# Altium footprint library KATADC_V1-3.PcbLib: 33 footprints (part 1 of 3)
Each footprint in its own frame and in the unit in brackets; x right, y up, seen from the top. Pads: shape width x height; smd on the part's side, far side on the other; paste and mask are expansions set on the pad; w line width, h text height; cw(c..) or ccw(c..) is an arc to the next point about the centre after c.
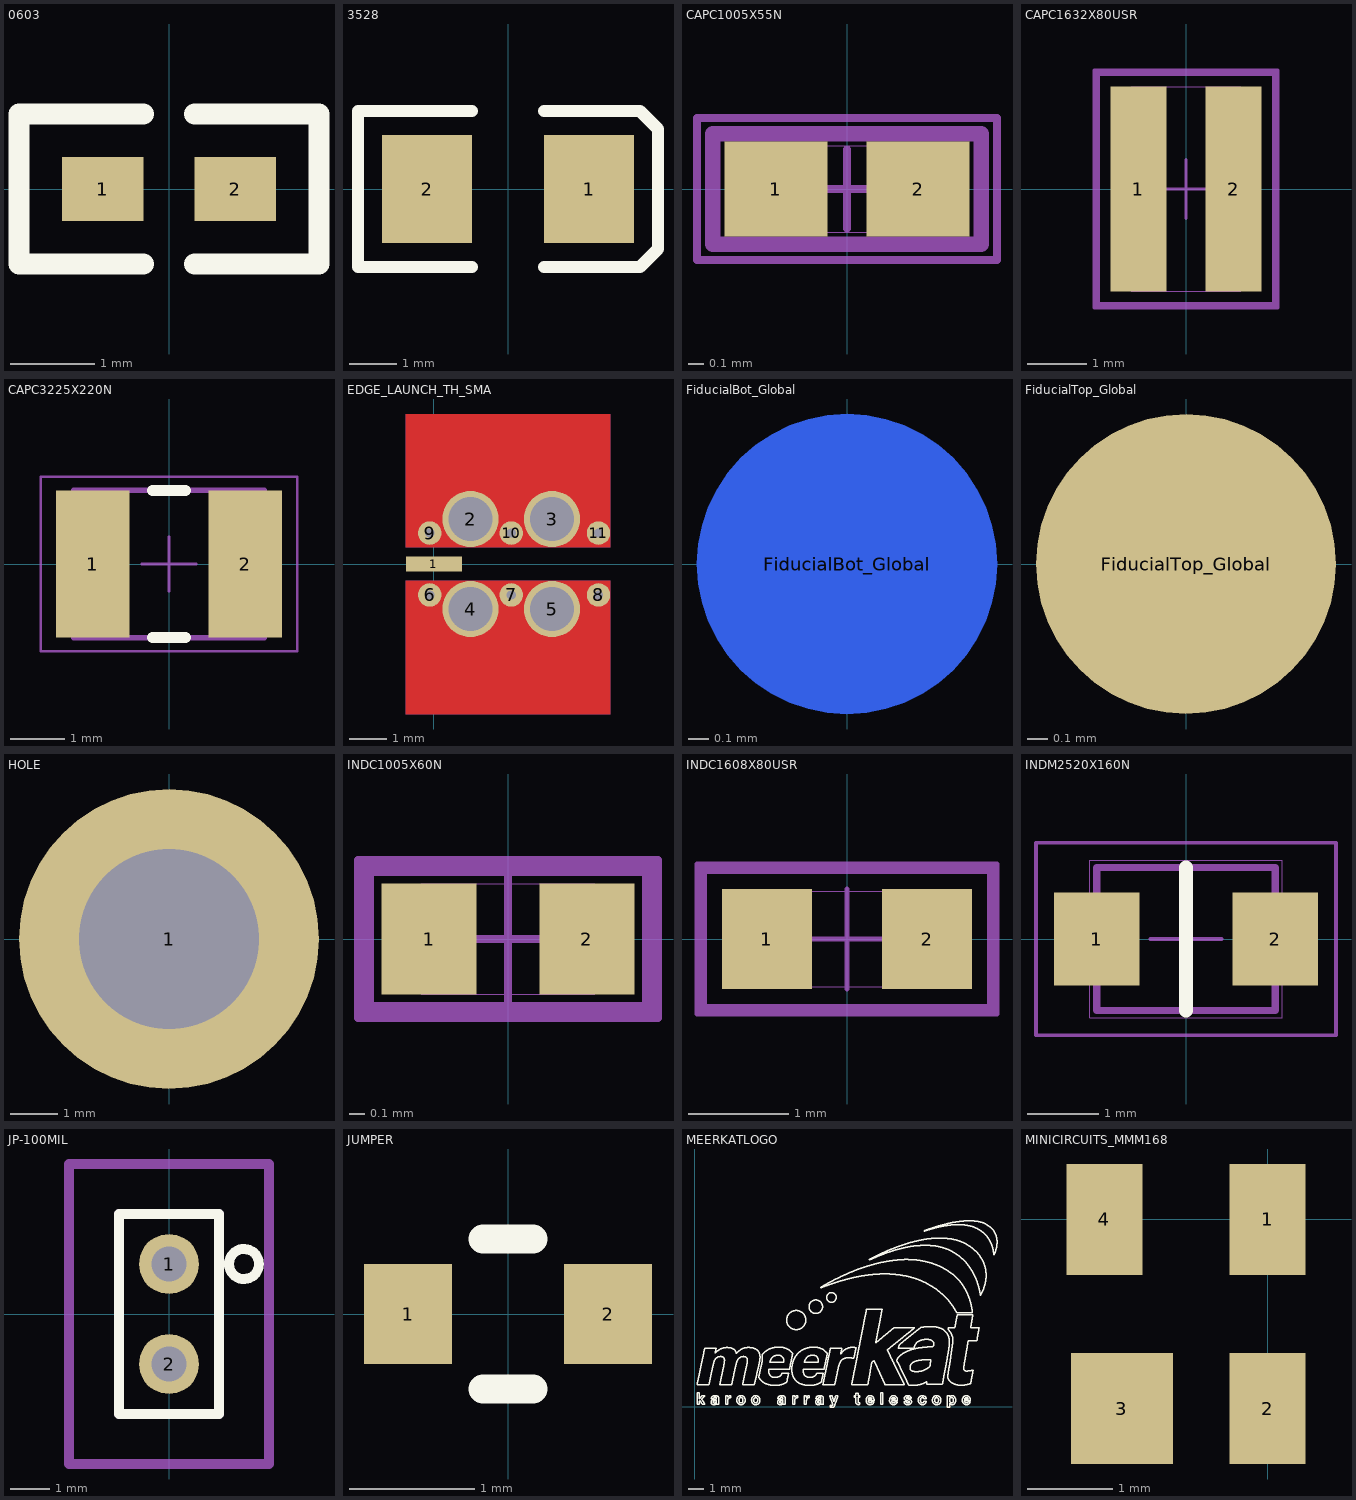
[diagram p0: the footprints below, top view; thin cyan lines are the x and y axes]

## 0603 [mil]
pads (2):
  rect 38x30 smd: 1(-31,0) 2(31,0)
Top Overlay:
  lines w10: -12,-35 -70,-35 -70,35 -12,35 ; 12,-35 70,-35 70,35 12,35

## 3528 [mil]
pads (2):
  rect 75x90 smd: 1(67.5,0) 2(-67.5,0)
Top Overlay:
  lines w10: -30,-65 -125,-65 -125,65 -30,65 ; 30,-65 110,-65 125,-50 125,50 110,65 30,65
Mechanical 13:
  text "C4" at -23.86,-15 h25

## CAPC1005X55N [mm]
pads (2):
  rect 0.65x0.6 smd mask+0.05: 1(-0.45,0) 2(0.45,0)
Mechanical 1:
  lines w0.1: -0.85,-0.35 -0.85,0.35 0.85,0.35 0.85,-0.35 -0.85,-0.35
Mechanical 13:
  text "C100" at -0.443,-0.152 h0.25
Mechanical 16:
  lines w0.001: -0.525,-0.275 -0.525,0.275 0.525,0.275 0.525,-0.275 -0.525,-0.275
  lines w0.05: -0.25,0 0.25,0 ; 0,-0.25 0,0.25 ; -0.95,-0.45 -0.95,0.45 0.95,0.45 0.95,-0.45 -0.95,-0.45

## CAPC1632X80USR [mm]
pads (2):
  rect 0.95x3.45 smd: 1(-0.8,0) 2(0.8,0)
Mechanical 1:
  lines w0.1: -1.5,-1.95 -1.5,1.95 1.5,1.95 1.5,-1.95 -1.5,-1.95
Mechanical 13:
  text "C1" at -0.455,-0.381 h0.64
Mechanical 16:
  lines w0.001: -0.925,-1.725 -0.925,1.725 0.925,1.725 0.925,-1.725 -0.925,-1.725
  lines w0.05: -0.5,0 0.5,0 ; 0,-0.5 0,0.5 ; -1.55,-2 -1.55,2 1.55,2 1.55,-2 -1.55,-2

## CAPC3225X220N [mm]
pads (2):
  rect 1.35x2.7 smd mask+0.05: 1(-1.4,0) 2(1.4,0)
Top Overlay:
  lines w0.2: -0.3,-1.35 0.3,-1.35 ; -0.3,1.35 0.3,1.35
Mechanical 1:
  lines w0.1: -1.75,-1.35 -1.75,1.35 1.75,1.35 1.75,-1.35 -1.75,-1.35
Mechanical 13:
  text "C105" at -1.106,-0.381 h0.64
Mechanical 16:
  lines w0.001: -1.75,-1.35 -1.75,1.35 1.75,1.35 1.75,-1.35 -1.75,-1.35
  lines w0.05: -0.5,0 0.5,0 ; 0,-0.5 0,0.5 ; -2.35,-1.6 -2.35,1.6 2.35,1.6 2.35,-1.6 -2.35,-1.6

## EDGE_LAUNCH_TH_SMA [mil]
pads (11):
  rect 60x16 smd: 1(0,0)
  round 60 hole 47.24: 2(39,48) 3(126,48) 4(39,-48) 5(126,-48)
  round 25 / inner round 60 / far side round 60 hole 9.84: 6(-4.5,-33) 7(82.5,-33) 8(175.5,-33) 9(-4.5,33) 10(82.5,33) 11(175.5,33)
Top Layer:
  region: -30,-18 -30,-160 188,-160 188,-18
  region: -30,160 -30,18 188,18 188,160
Bottom Layer:
  region: -30,-18 -30,-160 188,-160 188,-18
  region: -30,160 -30,18 188,18 188,160
Top Solder:
  region: -30,160 -30,18 188,18 188,160
  region: -30,-18 -30,-160 188,-160 188,-18

## FiducialBot_Global [mm] "1.5mm x 1.5mm"
height 1.4
pads (1):
  round 1.5 smd far side paste-2 mask+1: FiducialBot_Global(0,0)

## FiducialTop_Global [mm] "1.5mm x 1.5mm"
height 1.4
pads (1):
  round 1.5 smd paste-2 mask+1: FiducialTop_Global(0,0)

## HOLE [mm]
pads (1):
  round 6.35 / inner round 1.524 / far side round 1.524 hole 3.8: 1(0,0)

## INDC1005X60N [mm]
pads (2):
  rect 0.6x0.7 smd: 1(-0.5,0) 2(0.5,0)
Mechanical 1:
  lines w0.1: -0.9,-0.45 0.9,-0.45 0.9,0.45 -0.9,0.45 -0.9,-0.45
Mechanical 13:
  text "L7" at -0.197,-0.152 h0.25
Mechanical 16:
  lines w0.001: -0.55,-0.35 0.55,-0.35 0.55,0.35 -0.55,0.35 -0.55,-0.35
  lines w0.05: -0.5,0 0.5,0 ; 0,-0.5 0,0.5 ; -0.95,-0.5 0.95,-0.5 0.95,0.5 -0.95,0.5 -0.95,-0.5

## INDC1608X80USR [mm]
pads (2):
  rect 0.9x1 smd: 1(-0.8,0) 2(0.8,0)
Mechanical 1:
  lines w0.1: -1.45,-0.7 1.45,-0.7 1.45,0.7 -1.45,0.7 -1.45,-0.7
Mechanical 13:
  text "L3" at -0.491,-0.381 h0.64
Mechanical 16:
  lines w0.001: -0.875,-0.475 0.875,-0.475 0.875,0.475 -0.875,0.475 -0.875,-0.475
  lines w0.05: -0.5,0 0.5,0 ; 0,-0.5 0,0.5 ; -1.5,-0.75 1.5,-0.75 1.5,0.75 -1.5,0.75 -1.5,-0.75

## INDM2520X160N [mm]
pads (2):
  rect 1.2x1.3 smd: 1(-1.25,0) 2(1.25,0)
Top Overlay:
  lines w0.2: 0,-1 0,1
Mechanical 1:
  lines w0.1: -1.25,-1 1.25,-1 1.25,1 -1.25,1 -1.25,-1
Mechanical 13:
  text "L1" at -0.355,-0.381 h0.64
Mechanical 16:
  lines w0.001: -1.35,-1.1 1.35,-1.1 1.35,1.1 -1.35,1.1 -1.35,-1.1
  lines w0.05: -0.5,0 0.5,0 ; 0,-0.5 0,0.5 ; -2.1,-1.35 2.1,-1.35 2.1,1.35 -2.1,1.35 -2.1,-1.35

## JP-100MIL [mil]
pads (2):
  round 60 hole 35.43: 1(0,50) 2(0,-50)
Top Overlay:
  circle w9.84: c75,50 r15
  lines w9.84: -50,-100 50,-100 50,100 -50,100 -50,-100
Mechanical 13:
  text "JP1" at -25.77,-15 h25
Mechanical 16:
  lines w9.84: -100,-150 100,-150 100,150 -100,150 -100,-150 ; -50,-100 50,-100 50,100 -50,100 -50,-100

## JUMPER [mm]
pads (2):
  rect 0.7x0.8 smd paste+0.05 mask+0.05: 1(-0.8,0) 2(0.8,0)
Top Overlay:
  lines w0.23: -0.2,-0.6 0.2,-0.6 ; -0.2,0.6 0.2,0.6

## MEERKATLOGO [mm]
Top Overlay:
  drawing of 18832 lines, arcs and shapes, not listed

## MINICIRCUITS_MMM168 [mil]
pads (4):
  rect 35x51 smd: 1(0,0) 2(0,-87) 4(-75,0)
  rect 47x51 smd: 3(-67,-87)
Mechanical 13:
  text "AT11" at -36.9,-15 h25